# Altium footprint library Cuon Cam.PcbLib: 25 footprints (part 1 of 2)
Each footprint in its own frame and in the unit in brackets; x right, y up, seen from the top. Pads: shape width x height; smd on the part's side, far side on the other; paste and mask are expansions set on the pad; w line width, h text height; cw(c..) or ccw(c..) is an arc to the next point about the centre after c.
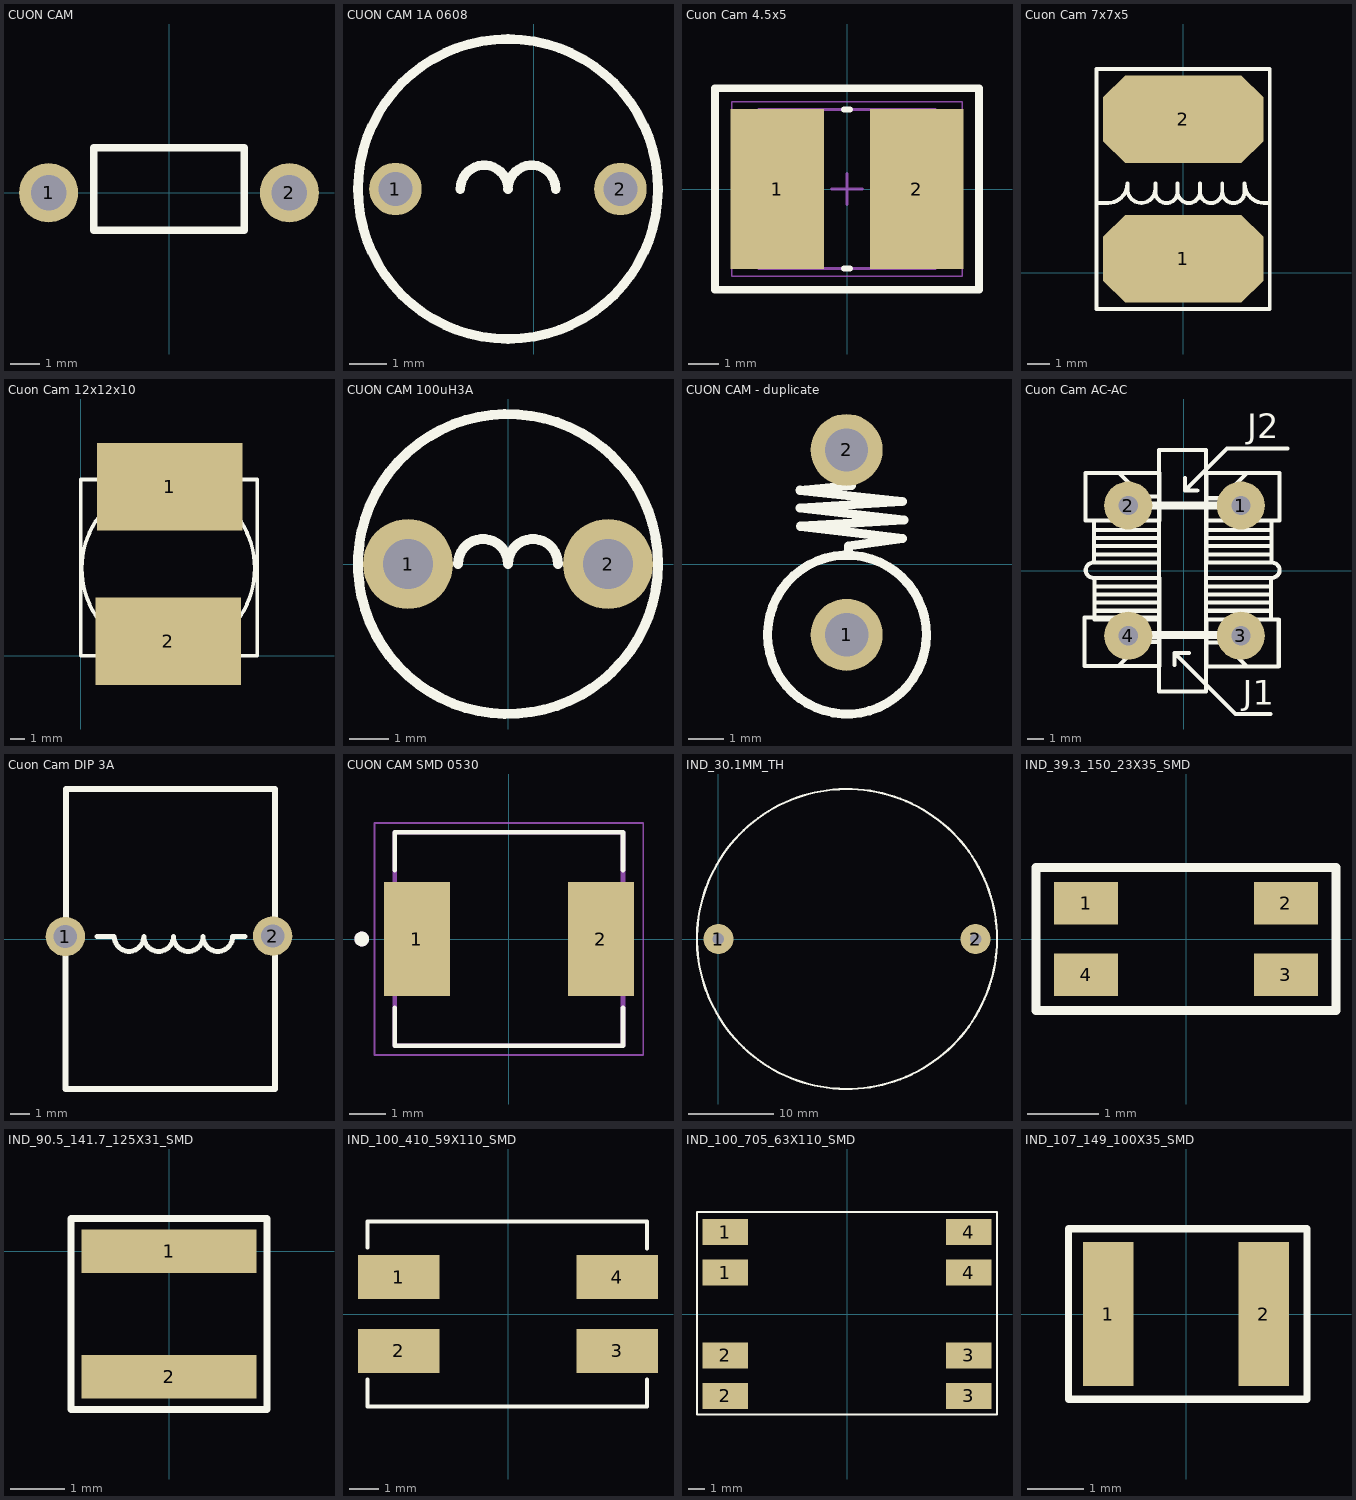
[diagram p0: the footprints below, top view; thin cyan lines are the x and y axes]

## CUON CAM [mm] "Dang cam giong tro"
pads (2):
  round 2 hole 1.2: 1(-4.064,0) 2(4.064,0)
Top Overlay:
  lines w0.254: -2.54,-1.27 2.54,-1.27 2.54,1.524 -2.54,1.524 -2.54,-1.27

## CUON CAM 1A 0608 [mm] "100uH3A"
pads (2):
  round 1.4 hole 0.9: 1(-3.683,-5.08) 2(2.317,-5.08)
Top Overlay:
  circle w0.254: c-0.683,-5.08 r4
  lines w0.254: -1.953,-5.08 cw(c-1.318,-5.08) -0.683,-5.08 cw(c-0.048,-5.08) 0.587,-5.08
3D body "Power Inductor RFC0807 Series.stp": height 8.4, standoff -3, extent -5.03,-9.687 3.77,-0.887

## Cuon Cam 4.5x5 [mm] "Cuon Cam 4.5x5"
height 2.29
pads (2):
  rect 3.05x5.25 smd: 1(-2.286,0) 2(2.286,0)
Top Overlay:
  lines w0.2: -0.1,-2.6 0.1,-2.6 ; -0.1,2.6 0.1,2.6
  lines w0.254: -4.318,-3.302 4.318,-3.302 4.318,3.302 -4.318,3.302 -4.318,-3.302
Mechanical 13:
  lines w0.1: -2.9,-2.6 -2.9,2.6 2.9,2.6 2.9,-2.6 -2.9,-2.6
Mechanical 15:
  lines w0.05: -3.775,-2.85 -3.775,2.85 3.775,2.85 3.775,-2.85 -3.775,-2.85
  lines w0.1: -0.5,0 0.5,0 ; 0,-0.5 0,0.5
3D body: height 2.29, standoff 0, extent -2.9,-2.6 2.9,2.6

## Cuon Cam 7x7x5 [mm] "Cuon Cam 7x7x5"
pads (2):
  oct 7.3x4 smd: 1(0,0.635) 2(0,6.985)
Top Overlay:
  lines w0.178: -3.937,3.175 -3.429,3.175 ccw(c-3.429,4.064) -2.54,4.064 -2.54,3.81 ccw(c-1.905,3.81) -1.905,3.175 ccw(c-1.905,3.81) -1.27,3.81 -1.27,4.064 -1.27,3.683 ccw(c-0.762,3.683) -0.762,3.175 ccw(c-0.762,3.683) -0.254,3.683 ; 3.937,3.175 3.683,3.175 cw(c3.683,4.064) 2.794,4.064 2.794,3.683 cw(c2.286,3.683) 2.286,3.175 cw(c2.286,3.683) 1.778,3.683 ; -0.254,3.683 ccw(c0.254,3.683) 0.254,3.175 ccw(c0.254,3.683) 0.762,3.683 ; -0.254,3.683 -0.254,4.064 -0.254,3.683 ; 0.762,3.683 ccw(c1.27,3.683) 1.27,3.175 ccw(c1.27,3.683) 1.778,3.683 ; 0.762,3.683 0.762,4.064 0.762,3.683 ; 1.778,3.683 1.778,4.064 1.778,3.683 ; -3.937,-1.651 3.937,-1.651 3.937,9.271 -3.937,9.271 -3.937,-1.651
3D body "cuon cam 75.step": height 5.02, standoff 0.01, extent -3.5,0.069 3.5,7.805

## Cuon Cam 12x12x10 [mm] "Cuon Cam 12x12x10"
pads (2):
  rect 10x6 smd: 1(6.1,11.6) 2(6,1)
Top Overlay:
  circle w0.254: c6,6 r5.941
  lines w0.254: 0,0 12.1,0 12.1,9.2 12.1,12.1 0,12.1 0,0
3D body "CUON CAM CDRH127 3A SMD.step": height 7.51, standoff 0.06, extent 0.096,-0.202 12.096,12.14

## CUON CAM 100uH3A [mil] "100uH3A"
pads (2):
  round 90 hole 50: 1(-100,0) 2(100,0)
Top Overlay:
  circle w10: c0,0 r150
  lines w10: -50,0 cw(c-25,0) 0,0 cw(c25,0) 50,0
3D body "cuon cam cam 1A.step": height 394.18, standoff -196.37, extent -171.27,-175.26 171.25,167.26

## CUON CAM - duplicate [mm] "Dang cam giong tro"
pads (2):
  round 2 hole 1.2: 1(8.765,-1.961) 2(8.763,3.175)
Top Overlay:
  region: 9.576,3.077 9.576,3.024 9.523,3.024 9.523,2.866 9.418,2.866 9.418,2.919 9.471,2.919 9.471,2.972 9.26,2.972 9.26,3.024 9.313,3.024 9.313,3.077 9.365,3.077 9.365,3.13 9.26,3.13 9.26,3.077 9.154,3.077 9.154,3.024 9.102,3.024 9.102,2.866 9.154,2.866 9.154,2.708 9.207,2.708 9.207,2.497 9.26,2.497 9.26,2.445 9.154,2.445 9.154,2.392 8.996,2.392 8.996,2.445 8.68,2.445 8.68,2.392 8.575,2.392 8.575,2.445 8.522,2.445 8.522,2.603 8.364,2.603 8.364,2.655 8.206,2.655 8.206,3.182 8.259,3.182 8.259,3.288 8.311,3.288 8.311,3.393 8.259,3.393 8.259,3.446 8.311,3.446 8.311,3.551 8.364,3.551 8.364,3.604 8.469,3.604 8.469,3.657 8.522,3.657 8.522,3.709 8.628,3.709 8.628,3.762 8.733,3.762 8.733,3.815 9.102,3.815 9.102,3.762 9.313,3.762 9.313,3.709 9.418,3.709 9.418,3.604 9.523,3.604 9.523,3.499 9.576,3.499 9.576,3.393 9.629,3.393 9.629,3.288 9.576,3.288 9.576,3.235 9.523,3.235 9.523,3.182 9.576,3.182 9.576,3.13
  region: 9.365,2.708 9.365,2.761 9.418,2.761 9.418,2.655 9.365,2.655
  lines w0.254: 6.566,-1.966 ccw(c8.773,-1.955) 6.567,-1.9 ; 8.816,0.263 8.816,0.503 10.315,0.72 7.481,1.056 10.361,1.233 7.464,1.558 10.31,1.746 7.464,2.054 8.901,2.191 8.907,2.362
3D body "User Library-1W right 100mil.sldprt": height 13.57, standoff -3.5, extent 6.868,-3.514 10.668,1.228

## Cuon Cam AC-AC [mm] "Cuon Cam 4.5x5"
height 2.29
pads (4):
  round 3 hole 1.2: 1(3.556,4.064) 2(-3.48,4.064) 3(3.556,-4.064) 4(-3.48,-4.064)
Top Overlay:
  region: 4.089,-4.258 4.089,-4.205 4.142,-4.205 4.142,-4.047 4.194,-4.047 4.194,-4.258 4.142,-4.258 4.142,-4.311 4.089,-4.311
  lines w0.254: -5.626,0.501 ccw(c-5.657,0.025) -5.61,-0.449 ; -5.626,1.016 -1.562,1.016 ; -5.626,1.524 -1.562,1.524 ; -5.626,2.032 -1.562,2.032 ; -5.626,2.54 -1.562,2.54 ; -5.593,-2.509 -1.529,-2.509 ; -5.593,-2.001 -1.529,-2.001 ; -5.593,-1.493 -1.529,-1.493 ; -5.593,-0.985 -1.529,-0.985 ; -4.101,-5.964 -2.582,-4.445 -1.524,-4.445 ; -4.064,6.096 -2.585,4.617 -1.524,4.617 ; -0.579,-5.898 -0.579,-5.153 ; 0.072,5.77 0.072,5.013 ; 0.308,-5.153 -0.579,-5.153 ; 0.829,5.013 0.072,5.013 ; 1.365,-2.509 5.429,-2.509 ; 1.365,-2.001 5.429,-2.001 ; 1.365,-1.493 5.429,-1.493 ; 1.365,-0.985 5.429,-0.985 ; 1.387,4.518 2.359,4.518 3.937,6.096 ; 1.397,-4.478 2.444,-4.478 3.919,-5.953 ; 1.397,1.016 5.461,1.016 ; 1.397,1.524 5.461,1.524 ; 1.397,2.032 5.461,2.032 ; 1.397,2.54 5.461,2.54 ; 5.416,-8.955 3.224,-8.955 -0.579,-5.153 ; 5.445,-0.449 ccw(c5.493,0.025) 5.461,0.501 ; 6.477,7.62 2.68,7.62 0.072,5.013 ; 1.397,3.139 5.461,3.139 5.461,0.508 1.397,0.508 1.397,3.139 ; 1.397,3.139 5.969,3.139 5.969,6.096 1.397,6.096 1.397,3.139 ; -6.223,-5.969 -1.524,-5.969 -1.524,-2.921 -6.223,-2.921 -6.223,-5.969 ; -6.139,3.139 -1.524,3.139 -1.524,6.096 -6.139,6.096 -6.139,3.139 ; -5.626,0.508 -1.562,0.508 -1.562,3.139 -5.626,3.139 -5.626,0.508 ; -5.593,-3.048 -1.529,-3.048 -1.529,-0.449 -5.593,-0.449 -5.593,-3.048 ; -1.562,-7.537 1.369,-7.537 1.369,7.544 -1.562,7.544 -1.562,-7.537 ; 1.365,-3.048 5.429,-3.048 5.429,-0.449 1.365,-0.449 1.365,-3.048 ; 1.397,-5.998 5.918,-5.998 5.918,-3.048 1.397,-3.048 1.397,-5.998
  lines w0.5: -2.709,-4.011 2.592,-4.012 ; -2.634,4.065 2.667,4.064
  text "J1" at 3.683,-8.382 h1.52
  text "J2" at 3.937,8.255 h1.52
Mechanical 1:
  lines w0.254: 4.172,3.91 cw(c3.556,4.064) 4.191,4.064
3D body "@_AA5;L   UU9LFNP-B-B222,   SUMIDA.STEP": height 16.77, standoff -3.5, extent -5.392,-7.747 5.608,7.753

## Cuon Cam DIP 3A [mil]
pads (2):
  round 80 hole 47.24: 1(128,6) 2(548,7)
Top Overlay:
  lines w10: 192,6 227,6 ccw(c257,6) 287,6 ccw(c317,6) 347,6 ccw(c377,6) 407,6 ccw(c437,6) 467,6 492,6
  lines w12: 128,-303 553,-303 553,305 129,305 129,18 128,17 128,-303

## CUON CAM SMD 0530 [mm] "CUON CAM SMD 0530"
pads (2):
  rect 1.8x3.1 smd: 1(-2.5,0) 2(2.5,0)
Top Overlay:
  circle w0.2: c-4,0 r0.1
  lines w0.127: -3.1,-1.863 -3.1,-2.9 3.1,-2.9 3.1,-1.863 ; -3.1,1.863 -3.1,2.9 3.1,2.9 3.1,1.863
Mechanical 13:
  circle w0.2: c-4,0 r0.1
  lines w0.127: -3.1,-2.9 3.1,-2.9 3.1,2.9 -3.1,2.9 -3.1,-2.9
Mechanical 15:
  lines w0.05: -3.65,-3.15 -3.65,3.15 3.65,3.15 3.65,-3.15 -3.65,-3.15
3D body "FDV0530-H-1R5M=P3--3DModel-STEP-46669.STEP": height 3, standoff 0, extent -3.1,-2.879 3.1,2.921

## IND_30.1MM_TH [mm]
pads (2):
  round 3.5 hole 1.35: 1(0,0) 2(30,0)
Top Overlay:
  circle w0.254: c15,0 r17.5
3D body "01.STEP": height 14.28, standoff 0.72, extent 3.062,-12.136 27.418,12.39

## IND_39.3_150_23X35_SMD [mm] "Inductor"
height 2
pads (4):
  rect 0.9x0.6 smd: 1(-1.4,0.5) 2(1.4,0.5) 3(1.4,-0.5) 4(-1.4,-0.5)
Top Overlay:
  lines w0.127: -2.1,-1 -2.1,1 2.1,1 2.1,-1 -2.1,-1
3D body "User Library-srf3216.step": height 2.01, standoff 0.01, extent -1.6,-0.8 1.6,0.8

## IND_90.5_141.7_125X31_SMD [mm] "Inductor"
height 1.2
pads (2):
  rect 3.2x0.8 smd: 1(0,0) 2(0,-2.3)
Top Overlay:
  lines w0.127: -1.8,-2.9 -1.8,0.6 1.8,0.6 1.8,-2.9 -1.8,-2.9

## IND_100_410_59X110_SMD [mm] "CASE: SMD"
height 5.3
pads (4):
  rect 2.8x1.5 smd: 1(-3.75,1.27) 2(-3.75,-1.27) 3(3.75,-1.27) 4(3.75,1.27)
Top Overlay:
  lines w0.127: -4.826,-2.25 -4.826,-3.175 4.775,-3.175 4.775,-2.25 ; -4.826,2.286 -4.826,3.175 4.775,3.175 4.775,2.25
3D body "STEP-WE-SL2-rev1.stp": height 5, standoff 0, extent -4.6,-3.025 4.6,2.975

## IND_100_705_63X110_SMD [mm] "CASE: SMD"
height 7.8
pads (8):
  rect 2.8x1.6 smd: 1(-7.5,2.55) 1(-7.5,5.05) 2(-7.5,-5.05) 2(-7.5,-2.55) 3(7.5,-5.05) 3(7.5,-2.55) 4(7.5,2.55) 4(7.5,5.05)
Top Overlay:
  lines w0.127: -9.25,-6.2 9.25,-6.2 9.25,6.3 -9.25,6.3 -9.25,-6.2
3D body "744290152 (rev1).stp": height 9.32, standoff 0.02, extent -8.231,-6.153 8.369,6.347

## IND_107_149_100X35_SMD [mm] "Inductor"
height 1.5
pads (2):
  rect 0.89x2.54 smd: 1(-1.37,0) 2(1.37,0)
Top Overlay:
  lines w0.127: -2.07,-1.5 2.13,-1.5 2.13,1.5 -2.07,1.5 -2.07,-1.5
3D body "Coilcraft-PFL3215.step": height 1.51, standoff 0.01, extent -1.6,-1.143 1.6,1.143